# Altium footprint library Header.PcbLib: 1 footprints
Each footprint in its own frame and in the unit in brackets; x right, y up, seen from the top. Pads: shape width x height; smd on the part's side, far side on the other; paste and mask are expansions set on the pad; w line width, h text height; cw(c..) or ccw(c..) is an arc to the next point about the centre after c.
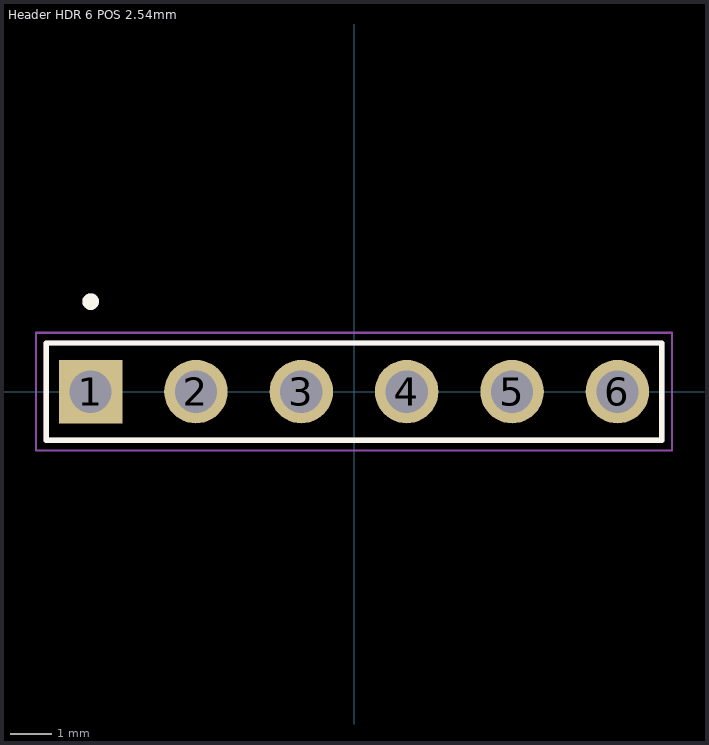
[diagram p0: the footprint, top view; thin cyan lines are the x and y axes]

## Header HDR 6 POS 2.54mm [mm]
pads (6):
  rect 1.53x1.53 hole 1.02: 1(-6.35,0)
  round 1.53 hole 1.02: 2(-3.81,0) 3(-1.27,0) 4(1.27,0) 5(3.81,0) 6(6.35,0)
Top Overlay:
  circle w0.2: c-6.35,2.17 r0.1
  lines w0.127: -7.42,-1.17 -7.42,1.17 7.42,1.17 7.42,-1.17 -7.42,-1.17
Mechanical 13:
  circle w0.2: c-6.35,2.17 r0.1
  lines w0.127: -7.42,-1.17 -7.42,1.17 7.42,1.17 7.42,-1.17 -7.42,-1.17
Mechanical 15:
  lines w0.05: -7.67,-1.42 -7.67,1.42 7.67,1.42 7.67,-1.42 -7.67,-1.42